# EAGLE library part TCA4311ADGKR (library KVB-ICs)
Buffer, Accelerator 1 Channel 8-VSSOP
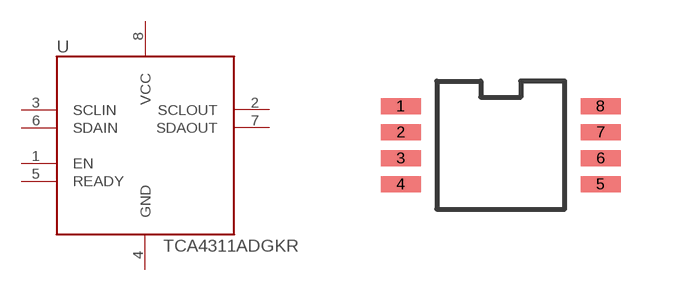
[diagram p5: symbol with the pads of TCA4311ADGKR; footprint TCA4311ADGKR]

Designator prefix U

## TCA4311ADGKR (MAN-PART_NUM: TCA4311ADGKR; MANUFACTURER: Texas Instruments)  [TCA4311ADGKR]
1  EN
2  SCLOUT
3  SCLIN
4  GND
5  READY
6  SDAIN
7  SDAOUT
8  VCC

## Footprint TCA4311ADGKR (pad centres in mm)
smd 1 x 0.4: 1 -2.5,0.975; 2 -2.5,0.325; 3 -2.5,-0.325; 4 -2.5,-0.975; 5 2.5,-0.975; 6 2.5,-0.325; 7 2.5,0.325; 8 2.5,0.975